# Altium footprint library VLMY30K2M1GS08.PcbLib: 1 footprints
Each footprint in its own frame and in the unit in brackets; x right, y up, seen from the top. Pads: shape width x height; smd on the part's side, far side on the other; paste and mask are expansions set on the pad; w line width, h text height; cw(c..) or ccw(c..) is an arc to the next point about the centre after c.
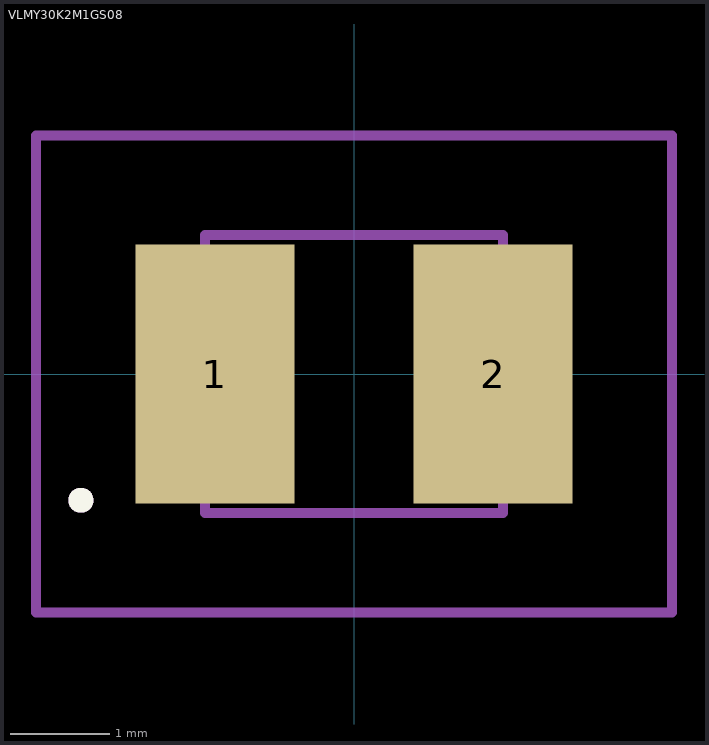
[diagram p0: the footprint, top view; thin cyan lines are the x and y axes]

## VLMY30K2M1GS08 [mm]
pads (2):
  rect 1.6x2.6 smd: 1(-1.4,0) 2(1.4,0)
Top Overlay:
  circle w0.2: c-2.747,-1.27 r0.025
Mechanical 13:
  circle w0.2: c-2.747,-1.27 r0.025
Mechanical 15:
  lines w0.1: -1.5,-1.4 1.5,-1.4 1.5,1.4 -1.5,1.4 -1.5,-1.4
Mechanical 20:
  lines w0.1: -3.2,-2.4 3.2,-2.4 3.2,2.4 -3.2,2.4 -3.2,-2.4